# Altium footprint library MDBU017A.PcbLib: 30 footprints (part 1 of 2)
Each footprint in its own frame and in the unit in brackets; x right, y up, seen from the top. Pads: shape width x height; smd on the part's side, far side on the other; paste and mask are expansions set on the pad; w line width, h text height; cw(c..) or ccw(c..) is an arc to the next point about the centre after c.
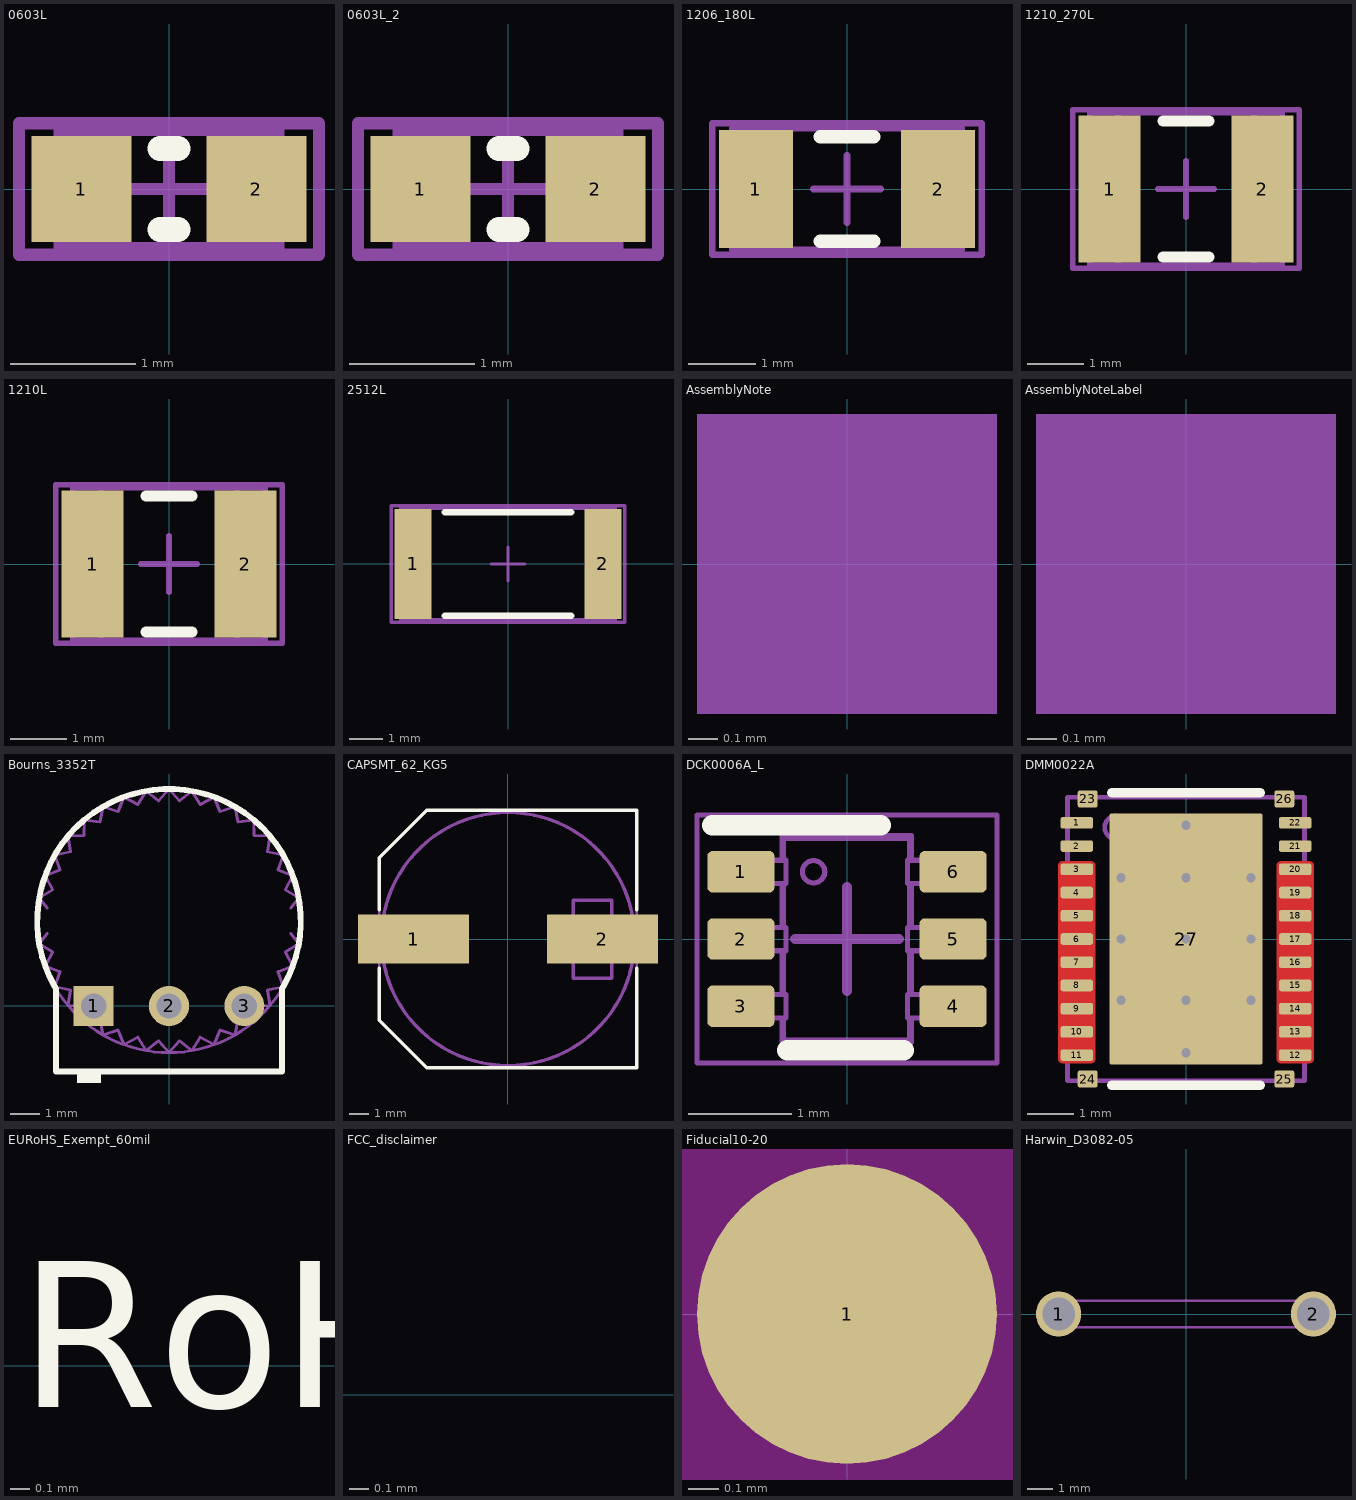
[diagram p0: the footprints below, top view; thin cyan lines are the x and y axes]

## 0603L [mm]
pads (2):
  rect 0.8x0.85 smd: 1(-0.7,0) 2(0.7,0)
Top Overlay:
  lines w0.2: -0.071,-0.325 0.071,-0.325 ; -0.071,0.325 0.071,0.325
Mechanical 5:
  lines w0.1: -1.2,-0.525 -1.2,0.525 1.2,0.525 1.2,-0.525 -1.2,-0.525
  text ".Designator" at -1.05,-0.275 h0.56
Mechanical 13:
  lines w0.1: -0.55,-0.475 -0.55,0.475 ; 0.55,-0.475 0.55,0.475 ; -0.875,-0.475 -0.875,0.475 0.875,0.475 0.875,-0.475 -0.875,-0.475
Mechanical 15:
  lines w0.1: -0.475,0 0.475,0 ; 0,-0.475 0,0.475 ; -1.2,-0.525 1.2,-0.525 1.2,0.525 -1.2,0.525 -1.2,-0.525
3D body: height 1, standoff 0, extent 0.551,-0.474 0.874,0.474
3D body: height 1, standoff 0, extent -0.549,-0.474 0.549,0.474
3D body: height 1, standoff 0, extent -0.874,-0.474 -0.551,0.474

## 0603L_2 [mm]
pads (2):
  rect 0.8x0.85 smd: 1(-0.7,0) 2(0.7,0)
Top Overlay:
  lines w0.2: -0.071,-0.325 0.071,-0.325 ; -0.071,0.325 0.071,0.325
Mechanical 5:
  lines w0.1: -1.2,-0.525 -1.2,0.525 1.2,0.525 1.2,-0.525 -1.2,-0.525
  text ".Designator" at -1.05,-0.275 h0.56
Mechanical 13:
  lines w0.1: -0.55,-0.475 -0.55,0.475 ; 0.55,-0.475 0.55,0.475 ; -0.875,-0.475 -0.875,0.475 0.875,0.475 0.875,-0.475 -0.875,-0.475
Mechanical 15:
  lines w0.1: -0.475,0 0.475,0 ; 0,-0.475 0,0.475 ; -1.2,-0.525 1.2,-0.525 1.2,0.525 -1.2,0.525 -1.2,-0.525
3D body: height 1, standoff 0, extent 0.551,-0.474 0.874,0.474
3D body: height 1, standoff 0, extent -0.549,-0.474 0.549,0.474
3D body: height 1, standoff 0, extent -0.874,-0.474 -0.551,0.474

## 1206_180L [mm]
pads (2):
  rect 1.1x1.75 smd: 1(-1.35,0) 2(1.35,0)
Top Overlay:
  lines w0.2: -0.4,-0.775 0.4,-0.775 ; -0.4,0.775 0.4,0.775
Mechanical 5:
  lines w0.1: -1.7,-0.9 -1.7,0.9 1.7,0.9 1.7,-0.9 -1.7,-0.9
  text ".Designator" at -1.475,-0.4 h0.81
Mechanical 15:
  lines w0.1: -0.5,0 0.5,0 ; 0,-0.5 0,0.5 ; -2,-0.975 -2,0.975 2,0.975 2,-0.975 -2,-0.975
3D body: height 1.8, standoff 0, extent 1.301,-0.949 1.75,0.95
3D body: height 1.8, standoff 0, extent -1.299,-0.949 1.3,0.95
3D body: height 1.8, standoff 0, extent -1.749,-0.949 -1.3,0.95

## 1210_270L [mm]
pads (2):
  rect 1.1x2.6 smd: 1(-1.35,0) 2(1.35,0)
Top Overlay:
  lines w0.2: -0.4,-1.2 0.4,-1.2 ; -0.4,1.2 0.4,1.2
Mechanical 5:
  lines w0.1: -1.7,-1.35 -1.7,1.35 1.7,1.35 1.7,-1.35 -1.7,-1.35
  text ".Designator" at -1.4,-0.375 h0.76
Mechanical 13:
  lines w0.1: -1.2,-1.35 -1.2,1.35 ; 1.2,-1.35 1.2,1.35 ; -1.7,-1.35 -1.7,1.35 1.7,1.35 1.7,-1.35 -1.7,-1.35
Mechanical 15:
  lines w0.1: -0.5,0 0.5,0 ; 0,-0.5 0,0.5 ; -2,-1.4 2,-1.4 2,1.4 -2,1.4 -2,-1.4
3D body: height 2.7, standoff 0, extent -1.699,-1.349 -1.201,1.349
3D body: height 2.7, standoff 0, extent -1.199,-1.349 1.199,1.349
3D body: height 2.7, standoff 0, extent 1.201,-1.349 1.699,1.349

## 1210L [mm]
pads (2):
  rect 1.1x2.6 smd: 1(-1.35,0) 2(1.35,0)
Top Overlay:
  lines w0.2: -0.4,-1.2 0.4,-1.2 ; -0.4,1.2 0.4,1.2
Mechanical 5:
  lines w0.1: -1.7,-1.35 -1.7,1.35 1.7,1.35 1.7,-1.35 -1.7,-1.35
  text ".Designator" at -1.4,-0.375 h0.76
Mechanical 13:
  lines w0.1: -1.2,-1.35 -1.2,1.35 ; 1.2,-1.35 1.2,1.35 ; -1.7,-1.35 -1.7,1.35 1.7,1.35 1.7,-1.35 -1.7,-1.35
Mechanical 15:
  lines w0.1: -0.5,0 0.5,0 ; 0,-0.5 0,0.5 ; -2,-1.4 2,-1.4 2,1.4 -2,1.4 -2,-1.4
3D body: height 1.35, standoff 0, extent -1.699,-1.349 -1.201,1.349
3D body: height 1.35, standoff 0, extent -1.199,-1.349 1.199,1.349
3D body: height 1.35, standoff 0, extent 1.201,-1.349 1.699,1.349

## 2512L [mm]
pads (2):
  rect 1.1x3.3 smd: 1(-2.85,0) 2(2.85,0)
Top Overlay:
  lines w0.2: -1.9,-1.55 1.9,-1.55 ; -1.9,1.55 1.9,1.55
Mechanical 5:
  lines w0.1: -3.225,-1.675 -3.225,1.675 3.225,1.675 3.225,-1.675 -3.225,-1.675
  text ".Designator" at -1.85,-0.5 h1.02
Mechanical 13:
  lines w0.1: -2.463,-1.675 -2.463,1.675 ; 2.463,-1.675 2.463,1.675 ; -3.225,-1.675 3.225,-1.675 3.225,1.675 -3.225,1.675 -3.225,-1.675
Mechanical 15:
  lines w0.1: -0.5,0 0.5,0 ; 0,-0.5 0,0.5 ; -3.5,-1.75 3.5,-1.75 3.5,1.75 -3.5,1.75 -3.5,-1.75
3D body: height 0.71, standoff 0, extent -3.224,-1.674 -2.464,1.674
3D body: height 0.71, standoff 0, extent -2.462,-1.674 2.462,1.674
3D body: height 0.71, standoff 0, extent 2.464,-1.674 3.224,1.674

## AssemblyNote [mm]
Mechanical 5:
  rectangle: -0.508,-0.508 0.508,0.508
  text ".Designator" at -4.191,-0.508 h1.02
  text ".Comment" at 1.143,-0.508 h1.02

## AssemblyNoteLabel [mm]
Mechanical 5:
  rectangle: -0.508,-0.508 0.508,0.508
  text "Install label in silkscreened box after final wash.  Text shall be 8 pt font.  Text shall be per the Label Table in the PDF schematic." at 1.143,-0.508 h1.02
  text ".Designator" at -4.191,-0.508 h1.02

## Bourns_3352T [mm]
pads (3):
  rect 1.35x1.35 hole 0.85: 1(-2.54,0)
  round 1.35 hole 0.85: 2(0,0) 3(2.54,0)
Top Overlay:
  region: -2.3,-2.6 -2.3,-2.2 -3.1,-2.2 -3.1,-2.6
  lines w0.2: -3.849,0.647 cw(c0,2.87) 3.849,0.647 ; -3.81,0.58 -3.81,-2.21 3.81,-2.21 3.81,0.58
Mechanical 5:
  lines w0.1: -4.105,2.44 -4.377,2.098 ; -4.105,3.3 -4.377,3.642 ; -3.81,0.58 -3.81,-2.21 3.81,-2.21 3.81,0.58 ; 4.105,2.44 4.377,2.098 ; 4.105,3.3 4.377,3.642 ; -4.377,2.098 ccw(c0,2.87) -4.177,1.35 ; -4.377,2.098 cw(c0,2.87) -4.377,3.642 ; -4.377,2.098 -3.922,1.819 -4.177,1.35 ; -4.377,3.642 cw(c0,2.87) -4.177,4.39 ; -4.377,3.642 -3.922,3.921 -4.177,4.39 ; -4.177,1.35 ccw(c0,2.87) -3.849,0.647 ; -4.177,1.35 -3.68,1.154 -3.849,0.647 ; -4.177,4.39 cw(c0,2.87) -3.849,5.093 ; -4.177,4.39 -3.68,4.586 -3.849,5.092 ; -3.849,0.647 ccw(c0,2.87) -3.405,0.013 ; -3.849,0.647 -3.326,0.541 -3.405,0.013 ; -3.849,5.093 cw(c0,2.87) -3.405,5.727 ; -3.849,5.092 -3.326,5.199 -3.405,5.727 ; -3.405,0.013 ccw(c0,2.87) -2.857,-0.535 ; -3.405,0.013 -2.871,-0.001 -2.857,-0.535 ; -3.405,5.727 cw(c0,2.87) -2.857,6.275 ; -3.405,5.727 -2.871,5.741 -2.857,6.275 ; -2.857,-0.535 ccw(c0,2.87) -2.223,-0.979 ; -2.857,-0.535 -2.329,-0.456 -2.222,-0.979 ; -2.857,6.275 cw(c0,2.87) -2.223,6.719 ; -2.857,6.275 -2.329,6.196 -2.222,6.719 ; -2.223,-0.979 ccw(c0,2.87) -1.52,-1.307 ; -2.222,-0.979 -1.716,-0.81 -1.52,-1.307 ; -2.223,6.719 cw(c0,2.87) -1.52,7.047 ; -2.222,6.719 -1.716,6.55 -1.52,7.047 ; -1.52,-1.307 ccw(c0,2.87) -0.772,-1.507 ; -1.52,-1.307 -1.051,-1.052 -0.772,-1.507 ; -1.52,7.047 cw(c0,2.87) -0.772,7.247 ; -1.52,7.047 -1.051,6.792 -0.772,7.247 ; -0.772,-1.507 ccw(c0,2.87) 0,-1.575 ; -0.772,-1.507 -0.354,-1.175 0,-1.575 ; -0.772,7.247 cw(c0,2.87) 0,7.315 ; -0.772,7.247 -0.354,6.915 0,7.315 ; 0,-1.575 ccw(c0,2.87) 0.772,-1.507 ; 0,-1.575 0.354,-1.175 0.772,-1.507 ; 0,7.315 cw(c0,2.87) 0.772,7.247 ; 0,7.315 0.354,6.915 0.772,7.247 ; 0.772,-1.507 ccw(c0,2.87) 1.52,-1.307 ; 0.772,-1.507 1.051,-1.052 1.52,-1.307 ; 0.772,7.247 cw(c0,2.87) 1.52,7.047 ; 0.772,7.247 1.051,6.792 1.52,7.047 ; 1.52,-1.307 ccw(c0,2.87) 2.223,-0.979 ; 1.52,-1.307 1.716,-0.81 2.222,-0.979 ; 1.52,7.047 cw(c0,2.87) 2.223,6.719 ; 1.52,7.047 1.716,6.55 2.222,6.719 ; 2.223,-0.979 ccw(c0,2.87) 2.857,-0.535 ; 2.222,-0.979 2.329,-0.456 2.857,-0.535 ; 2.223,6.719 cw(c0,2.87) 2.857,6.275 ; 2.222,6.719 2.329,6.196 2.857,6.275 ; 2.857,-0.535 ccw(c0,2.87) 3.405,0.013 ; 2.857,-0.535 2.871,-0.001 3.405,0.013 ; 2.857,6.275 cw(c0,2.87) 3.405,5.727 ; 2.857,6.275 2.871,5.741 3.405,5.727 ; 3.405,0.013 ccw(c0,2.87) 3.849,0.647 ; 3.405,0.013 3.326,0.541 3.849,0.647 ; 3.405,5.727 cw(c0,2.87) 3.849,5.093 ; 3.405,5.727 3.326,5.199 3.849,5.092 ; 3.849,0.647 ccw(c0,2.87) 4.177,1.35 ; 3.849,0.647 3.68,1.154 4.177,1.35 ; 3.849,5.093 cw(c0,2.87) 4.177,4.39 ; 3.849,5.092 3.68,4.586 4.177,4.39 ; 4.177,1.35 ccw(c0,2.87) 4.377,2.098 ; 4.177,1.35 3.922,1.819 4.377,2.098 ; 4.177,4.39 cw(c0,2.87) 4.377,3.642 ; 4.177,4.39 3.922,3.921 4.377,3.642 ; 4.377,2.098 ccw(c0,2.87) 4.377,3.642
  text ".Designator" at -2,2 h1.02
3D body "3352T.stp": height 3.81, standoff -4.75, extent -4.445,-2.21 4.445,7.315

## CAPSMT_62_KG5 [mm]
pads (2):
  rect 5.7x2.5 smd: 1(-4.838,0.012) 2(4.862,0.012)
Top Overlay:
  lines w0.178: -6.588,-1.488 -6.588,-4.163 -4.163,-6.588 0.012,-6.588 6.612,-6.588 6.612,-1.488 ; -6.588,1.512 -6.588,4.187 -4.163,6.612 0.012,6.612 6.612,6.612 6.612,1.512
Mechanical 5:
  lines w0.127: -6.588,-4.163 -4.163,-6.588 0.012,-6.588 6.612,-6.588 6.612,6.612 0.012,6.612 -4.163,6.612 -6.588,4.187 -6.588,-4.163
  text ".Designator" at -1.524,-0.508 h1.02
Mechanical 13:
  circle w0.178: c0.012,0.012 r6.5
  lines w0.178: 3.35,-2 3.35,2 5.35,2 5.35,-2 3.35,-2
3D body: height 16.5, standoff 16.4, extent 3.35,-1.999 5.349,1.999
3D body: height 1, standoff 0, extent -6.588,-6.588 6.613,6.613
3D body: height 16.5, standoff 1, extent -6.487,-6.487 6.512,6.512

## DCK0006A_L [mm]
pads (6):
  rrect25% 0.65x0.4 smd: 1(-1.025,0.65) 2(-1.025,0) 3(-1.025,-0.65) 4(1.025,-0.65) 5(1.025,0) 6(1.025,0.65)
Top Overlay:
  lines w0.2: -1.3,1.1 0.325,1.1 ; -0.575,-1.075 0.55,-1.075
Mechanical 5:
  lines w0.05: -0.613,-0.763 -0.613,-0.976 0.607,-0.976 0.607,-0.763 ; -0.613,-0.538 -0.613,-0.113 ; -0.613,0.112 -0.613,0.537 ; -0.613,0.762 -0.613,0.974 0.607,0.974 0.607,0.762 ; 0.607,-0.538 0.607,-0.113 ; 0.607,0.112 0.607,0.537 ; -0.628,-0.763 -0.591,-0.763 -0.591,-0.538 -0.628,-0.538 ; -0.628,-0.763 -0.853,-0.763 -0.865,-0.763 -0.959,-0.763 -1.143,-0.763 -1.143,-0.538 -0.959,-0.538 -0.865,-0.538 -0.853,-0.538 -0.628,-0.538 ; -0.628,-0.763 -0.628,-1.001 0.622,-1.001 0.622,-0.763 ; -0.628,-0.538 -0.628,-0.113 ; -0.628,-0.113 -0.591,-0.113 -0.591,0.112 -0.628,0.112 ; -0.628,-0.113 -0.853,-0.113 -0.865,-0.113 -0.959,-0.113 -1.143,-0.113 -1.143,0.112 -0.959,0.112 -0.865,0.112 -0.853,0.112 -0.628,0.112 ; -0.628,0.112 -0.628,0.537 ; -0.628,0.537 -0.591,0.537 -0.591,0.762 -0.628,0.762 ; -0.628,0.537 -0.853,0.537 -0.865,0.537 -0.959,0.537 -1.143,0.537 -1.143,0.762 -0.959,0.762 -0.865,0.762 -0.853,0.762 -0.628,0.762 ; -0.628,0.762 -0.628,0.999 0.622,0.999 0.622,0.762 ; 0.622,-0.763 0.585,-0.763 0.585,-0.538 0.622,-0.538 ; 0.622,-0.763 0.847,-0.763 0.859,-0.763 0.953,-0.763 1.137,-0.763 1.137,-0.538 0.953,-0.538 0.859,-0.538 0.847,-0.538 0.622,-0.538 ; 0.622,-0.538 0.622,-0.113 ; 0.622,-0.113 0.847,-0.113 0.859,-0.113 0.953,-0.113 1.137,-0.113 1.137,0.112 0.953,0.112 0.859,0.112 0.847,0.112 0.622,0.112 ; 0.622,-0.113 0.585,-0.113 0.585,0.112 0.622,0.112 ; 0.622,0.112 0.622,0.537 ; 0.622,0.537 0.585,0.537 0.585,0.762 0.622,0.762 ; 0.622,0.537 0.847,0.537 0.859,0.537 0.953,0.537 1.137,0.537 1.137,0.762 0.953,0.762 0.859,0.762 0.847,0.762 0.622,0.762 ; -0.432,0.65 ccw(c-0.323,0.65) -0.215,0.65 ccw(c-0.323,0.65) -0.432,0.65
  text ".Designator" at -0.051,0.66 h0.38
Mechanical 15:
  lines w0.05: -1.45,-1.2 -1.45,1.2 1.45,1.2 1.45,-1.2 -1.45,-1.2
  lines w0.1: -0.5,0 0.5,0 ; 0,-0.5 0,0.5
3D body "DCK0006A.stp": height 0.95, standoff 0, extent -1.14,-1 1.14,1

## DMM0022A [mm]
pads (35):
  rrect40% 0.7x0.25 smd: 1(-2.35,2.5) 2(-2.35,2) 21(2.35,2) 22(2.35,2.5)
  rrect40% 0.7x0.25 smd mask+0: 3(-2.35,1.5) 4(-2.35,1) 5(-2.35,0.5) 6(-2.35,0) 7(-2.35,-0.5) 8(-2.35,-1) 9(-2.35,-1.5) 10(-2.35,-2) 11(-2.35,-2.5) 12(2.35,-2.5) 13(2.35,-2) 14(2.35,-1.5) 15(2.35,-1) 16(2.35,-0.5) 17(2.35,0) 18(2.35,0.5) 19(2.35,1) 20(2.35,1.5)
  rrect27% 0.43x0.375 smd: 23(-2.115,3.013) 24(-2.115,-3.013) 25(2.115,-3.013) 26(2.115,3.013)
  rrect3% 3.3x5.4 smd paste-1.65: 27(0,0)
  rrect50% 1.41x1.12 on Top Paste: ""(-0.805,-1.98) ""(-0.805,-0.66) ""(-0.805,0.66) ""(-0.805,1.98) ""(0.805,-1.98) ""(0.805,-0.66) ""(0.805,0.66) ""(0.805,1.98)
via -1.4,1.32 diameter 0.5 hole 0.2
via -1.4,0 diameter 0.5 hole 0.2
via -1.4,-1.32 diameter 0.5 hole 0.2
via 1.4,-1.32 diameter 0.5 hole 0.2
via 1.4,0 diameter 0.5 hole 0.2
via 1.4,1.32 diameter 0.5 hole 0.2
via 0,-2.45 diameter 0.5 hole 0.2
via 0,2.45 diameter 0.5 hole 0.2
via 0,0 diameter 0.5 hole 0.2
via 0,-1.32 diameter 0.5 hole 0.2
via 0,1.32 diameter 0.5 hole 0.2
Top Layer:
  region: 2.3,1.5 2,1.5 2,-2.5 2.3,-2.5
  rectangle: -2.3,-2.5 -2,1.5
  region: 2.75,-2.575 2.75,1.575 2.75,1.595 2.735,1.632 2.707,1.66 2.67,1.675 2.65,1.675 2.05,1.675 2.03,1.675 1.993,1.66 1.965,1.632 1.95,1.595 1.95,1.575 1.95,-2.575 1.95,-2.595 1.965,-2.632 1.993,-2.66 2.03,-2.675 2.05,-2.675 2.65,-2.675 2.67,-2.675 2.707,-2.66 2.735,-2.632 2.75,-2.595
  region: -2.75,-2.575 -2.75,1.575 -2.75,1.595 -2.735,1.632 -2.707,1.66 -2.67,1.675 -2.65,1.675 -2.05,1.675 -2.03,1.675 -1.993,1.66 -1.965,1.632 -1.95,1.595 -1.95,1.575 -1.95,-2.575 -1.95,-2.595 -1.965,-2.632 -1.993,-2.66 -2.03,-2.675 -2.05,-2.675 -2.65,-2.675 -2.67,-2.675 -2.707,-2.66 -2.735,-2.632 -2.75,-2.595
Top Overlay:
  lines w0.2: -1.6,-3.15 1.6,-3.15 ; -1.6,3.15 1.6,3.15
Mechanical 5:
  circle w0.1: c-1.5,2.4 r0.25
  lines w0.1: -2.55,-3.05 -2.55,3.05 2.55,3.05 2.55,-3.05 -2.55,-3.05
  text ".Designator" at -2,-0.7 h1.85
3D body "DMM0022A.stp": height 1.05, standoff 0, extent -2.5,-3 2.5,3

## EURoHS_Exempt_60mil [mm]
Top Overlay:
  text "RoHS Exempt" at -4.3,-0.5 h1.52

## FCC_disclaimer [mm]
Top Overlay:
  text "For evaluation only; not FCC approved for resale." at -15.928,-0.353 h1.52

## Fiducial10-20 [mm]
pads (1):
  round 1 smd mask+0.5: 1(0,0)
Top Layer keep-out:
  circle w1.178: c0,0 r0.5

## Harwin_D3082-05 [mm]
pads (2):
  round 1.8 hole 1.3: 1(-5.08,0) 2(5.08,0)
Mechanical 5:
  lines w0.1: -5.08,-0.525 cw(c-5.08,0) -5.08,0.525 5.08,0.525 cw(c5.08,0) 5.08,-0.525 -5.08,-0.525
  text ".Designator" at -1.125,-0.2 h0.5
3D body: height 6.1, standoff -2.5, extent -5.601,-0.524 -4.555,0.524
3D body: height 6.1, standoff -2.5, extent 4.559,-0.524 5.605,0.524
3D body: height 6.63, standoff 5.58, extent -5.6,-0.523 -4.555,0.523
3D body: height 6.63, standoff 5.58, extent 4.56,-0.523 5.605,0.523
3D body: height 6.63, standoff 5.58, extent -5.08,-0.524 5.08,0.524